# Altium footprint library PcbLib1.PcbLib: 7 footprints
Each footprint in its own frame and in the unit in brackets; x right, y up, seen from the top. Pads: shape width x height; smd on the part's side, far side on the other; paste and mask are expansions set on the pad; w line width, h text height; cw(c..) or ccw(c..) is an arc to the next point about the centre after c.
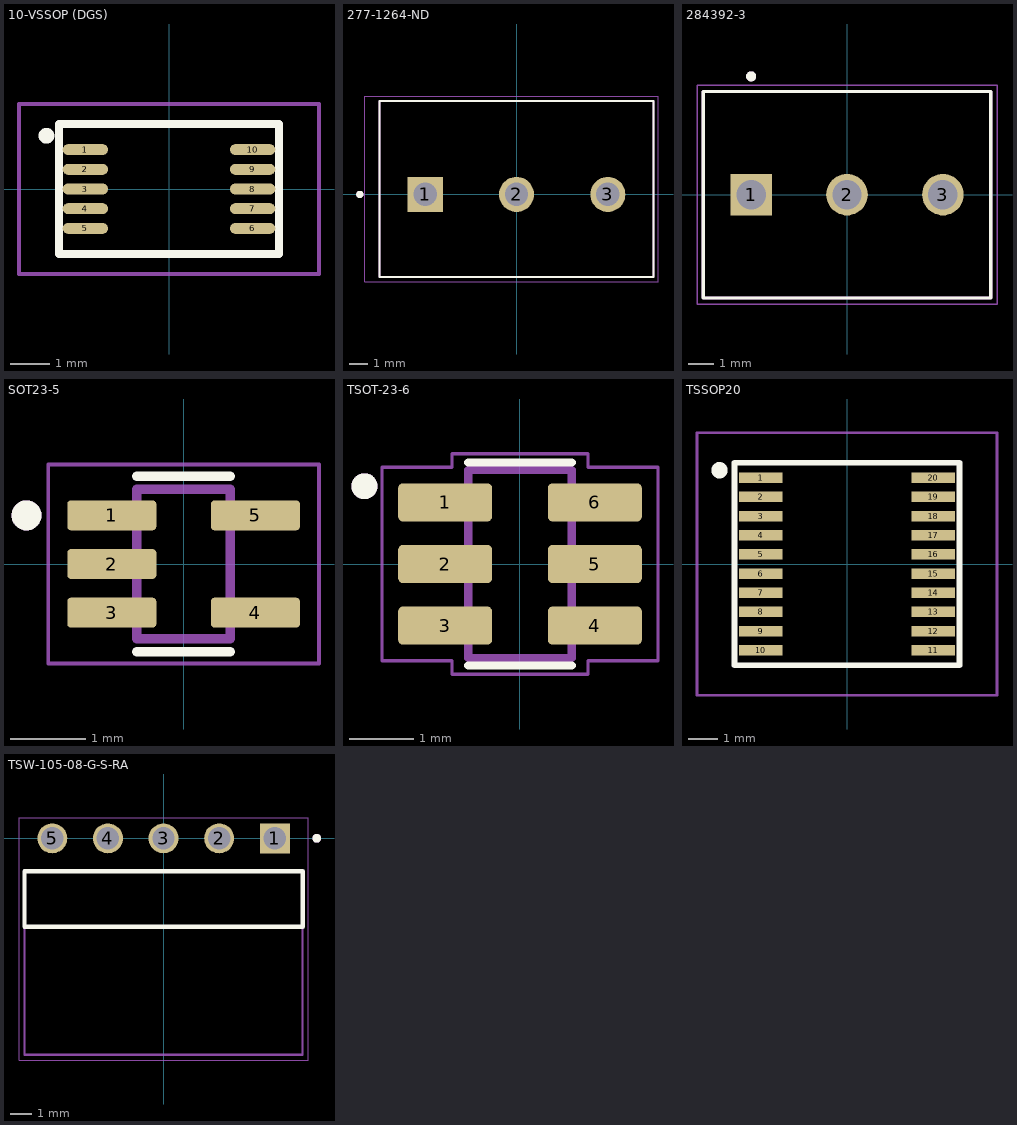
[diagram p0: the footprints below, top view; thin cyan lines are the x and y axes]

## 10-VSSOP (DGS) [mm]
pads (10):
  oval 1.15x0.279 smd paste+0 mask+0: 1(-2.125,1) 2(-2.125,0.5) 3(-2.125,0) 4(-2.125,-0.5) 5(-2.125,-1) 6(2.125,-1) 7(2.125,-0.5) 8(2.125,0) 9(2.125,0.5) 10(2.125,1)
Top Overlay:
  circle w0.3: c-3.113,1.352 r0.05
  lines w0.2: -2.794,-1.651 2.794,-1.651 2.794,1.651 -2.54,1.651 -2.794,1.651 -2.794,-1.651
Mechanical 15:
  lines w0.1: -3.81,-2.159 3.81,-2.159 3.81,2.159 -3.175,2.159 -3.81,2.159 -3.81,-2.159
3D body "DGS0010A.stp": height 1.16, standoff -0.05, extent -2.439,-1.498 2.486,1.539

## 277-1264-ND [mm]
pads (3):
  rect 1.95x1.95 / inner round 1.95 / far side rect 1.95x1.95 hole 1.3: 1(-5.08,0)
  round 1.95 hole 1.3: 2(0,0) 3(5.08,0)
Top Overlay:
  circle w0.2: c-8.72,0 r0.1
  lines w0.127: -7.62,-4.6 -7.62,5.2 7.62,5.2 7.62,-4.6 -7.62,-4.6
Mechanical 13:
  circle w0.2: c-8.72,0 r0.1
  lines w0.127: -7.62,-4.6 -7.62,5.2 7.62,5.2 7.62,-4.6 -7.62,-4.6
Mechanical 15:
  lines w0.05: -8.44,-4.85 -8.44,5.45 7.87,5.45 7.87,-4.85 -8.44,-4.85
3D body "step_temp.STEP": height 13.66, standoff -3.64, extent -7.62,-4.473 7.62,5.327

## 284392-3 [mm]
pads (3):
  rect 1.65x1.65 / inner round 1.65 / far side rect 1.65x1.65 hole 1.168: 1(-3.81,0)
  round 1.65 hole 1.168: 2(0,0) 3(3.81,0)
Top Overlay:
  circle w0.2: c-3.81,4.7 r0.1
  lines w0.127: -5.71,-4.1 -5.71,4.1 5.71,4.1 5.71,-4.1 -5.71,-4.1
Mechanical 13:
  circle w0.2: c-3.81,4.7 r0.1
  lines w0.127: -5.71,-4.1 -5.71,4.1 5.71,4.1 5.71,-4.1 -5.71,-4.1
Mechanical 15:
  lines w0.05: -5.96,-4.35 -5.96,4.35 5.96,4.35 5.96,-4.35 -5.96,-4.35
3D body "step_temp.STEP": height 12.62, standoff -3.48, extent -6.088,-4.136 5.842,4.064

## SOT23-5 [mm]
pads (5):
  rrect25% 1.19x0.4 smd: 1(-0.96,0.65) 2(-0.96,0) 3(-0.96,-0.65) 4(0.96,-0.65) 5(0.96,0.65)
Top Overlay:
  circle w0.2: c-2.1,0.65 r0.1
  lines w0.127: -0.625,-1.17 0.625,-1.17 ; -0.625,1.17 0.625,1.17
Mechanical 13:
  circle w0.2: c-2.1,0.65 r0.1
  lines w0.127: -0.625,-1 0.625,-1 0.625,1 -0.625,1 -0.625,-1
Mechanical 15:
  lines w0.05: -1.81,-1.33 1.81,-1.33 1.81,1.33 -1.81,1.33 -1.81,-1.33
3D body "step_temp.STEP": height 1.1, standoff 0, extent -1.05,-1 1.05,1

## TSOT-23-6 [mm]
pads (6):
  rrect25% 1.45x0.59 smd: 1(-1.155,0.95) 2(-1.155,0) 3(-1.155,-0.95) 4(1.155,-0.95) 5(1.155,0) 6(1.155,0.95)
Top Overlay:
  circle w0.2: c-2.4,1.2 r0.1
  lines w0.127: -0.8,-1.565 0.8,-1.565 ; -0.8,1.565 0.8,1.565
Mechanical 13:
  circle w0.2: c-2.4,1.2 r0.1
  lines w0.127: -0.8,-1.45 -0.8,1.45 0.8,1.45 0.8,-1.45 -0.8,-1.45
Mechanical 15:
  lines w0.05: -2.13,-1.495 -2.13,1.495 -1.05,1.495 -1.05,1.7 1.05,1.7 1.05,1.495 2.13,1.495 2.13,-1.495 1.05,-1.495 1.05,-1.7 -1.05,-1.7 -1.05,-1.495 -2.13,-1.495
3D body "step_temp.STEP": height 1.1, standoff 0, extent -1.4,-1.45 1.4,1.45

## TSSOP20 [mm]
pads (20):
  rect 1.462x0.355 smd paste+0 mask+0: 1(-2.921,2.925) 2(-2.921,2.275) 3(-2.921,1.625) 4(-2.921,0.975) 5(-2.921,0.325) 6(-2.921,-0.325) 7(-2.921,-0.975) 8(-2.921,-1.625) 9(-2.921,-2.275) 10(-2.921,-2.925) 11(2.921,-2.925) 12(2.921,-2.275) 13(2.921,-1.625) 14(2.921,-0.975) 15(2.921,-0.325) 16(2.921,0.325) 17(2.921,0.975) 18(2.921,1.625) 19(2.921,2.275) 20(2.921,2.925)
Top Overlay:
  circle w0.3: c-4.318,3.175 r0.127
  lines w0.2: -3.81,-3.429 -3.81,3.429 3.81,3.429 3.81,-3.429 -3.81,-3.429
Mechanical 15:
  lines w0.1: -5.08,-4.445 5.08,-4.445 5.08,4.445 -5.08,4.445 -5.08,-4.445
3D body "TSSOP20.step": height 1.2, standoff 0, extent -3.302,-3.302 3.302,3.302

## TSW-105-08-G-S-RA [mm]
pads (5):
  rect 1.37x1.37 hole 1.02: 1(5.08,0)
  round 1.37 hole 1.02: 2(2.54,0) 3(0,0) 4(-2.54,0) 5(-5.08,0)
Top Overlay:
  circle w0.2: c7,0 r0.1
  lines w0.2: -6.35,-4.04 -6.35,-1.5 6.35,-1.5 6.35,-4.04 -6.35,-4.04
Mechanical 13:
  circle w0.2: c7,0 r0.1
  lines w0.1: -6.35,-4.04 -6.35,-1.5 6.35,-1.5 6.35,-4.04 ; -6.35,-4.04 6.35,-4.04 ; -6.35,-4.04 -6.35,-9.88 6.35,-9.88 6.35,-4.04
Mechanical 15:
  lines w0.05: -6.6,-10.13 -6.6,0.935 6.6,0.935 6.6,-10.13 -6.6,-10.13
3D body "TSW-105-08-G-S-RA_SAI.step": height 2.54, standoff -6.35, extent -6.35,-10.236 6.35,0.445